# Altium footprint library Capacitors.PcbLib: 81 footprints (part 5 of 6)
Each footprint in its own frame and in the unit in brackets; x right, y up, seen from the top. Pads: shape width x height; smd on the part's side, far side on the other; paste and mask are expansions set on the pad; w line width, h text height; cw(c..) or ccw(c..) is an arc to the next point about the centre after c.
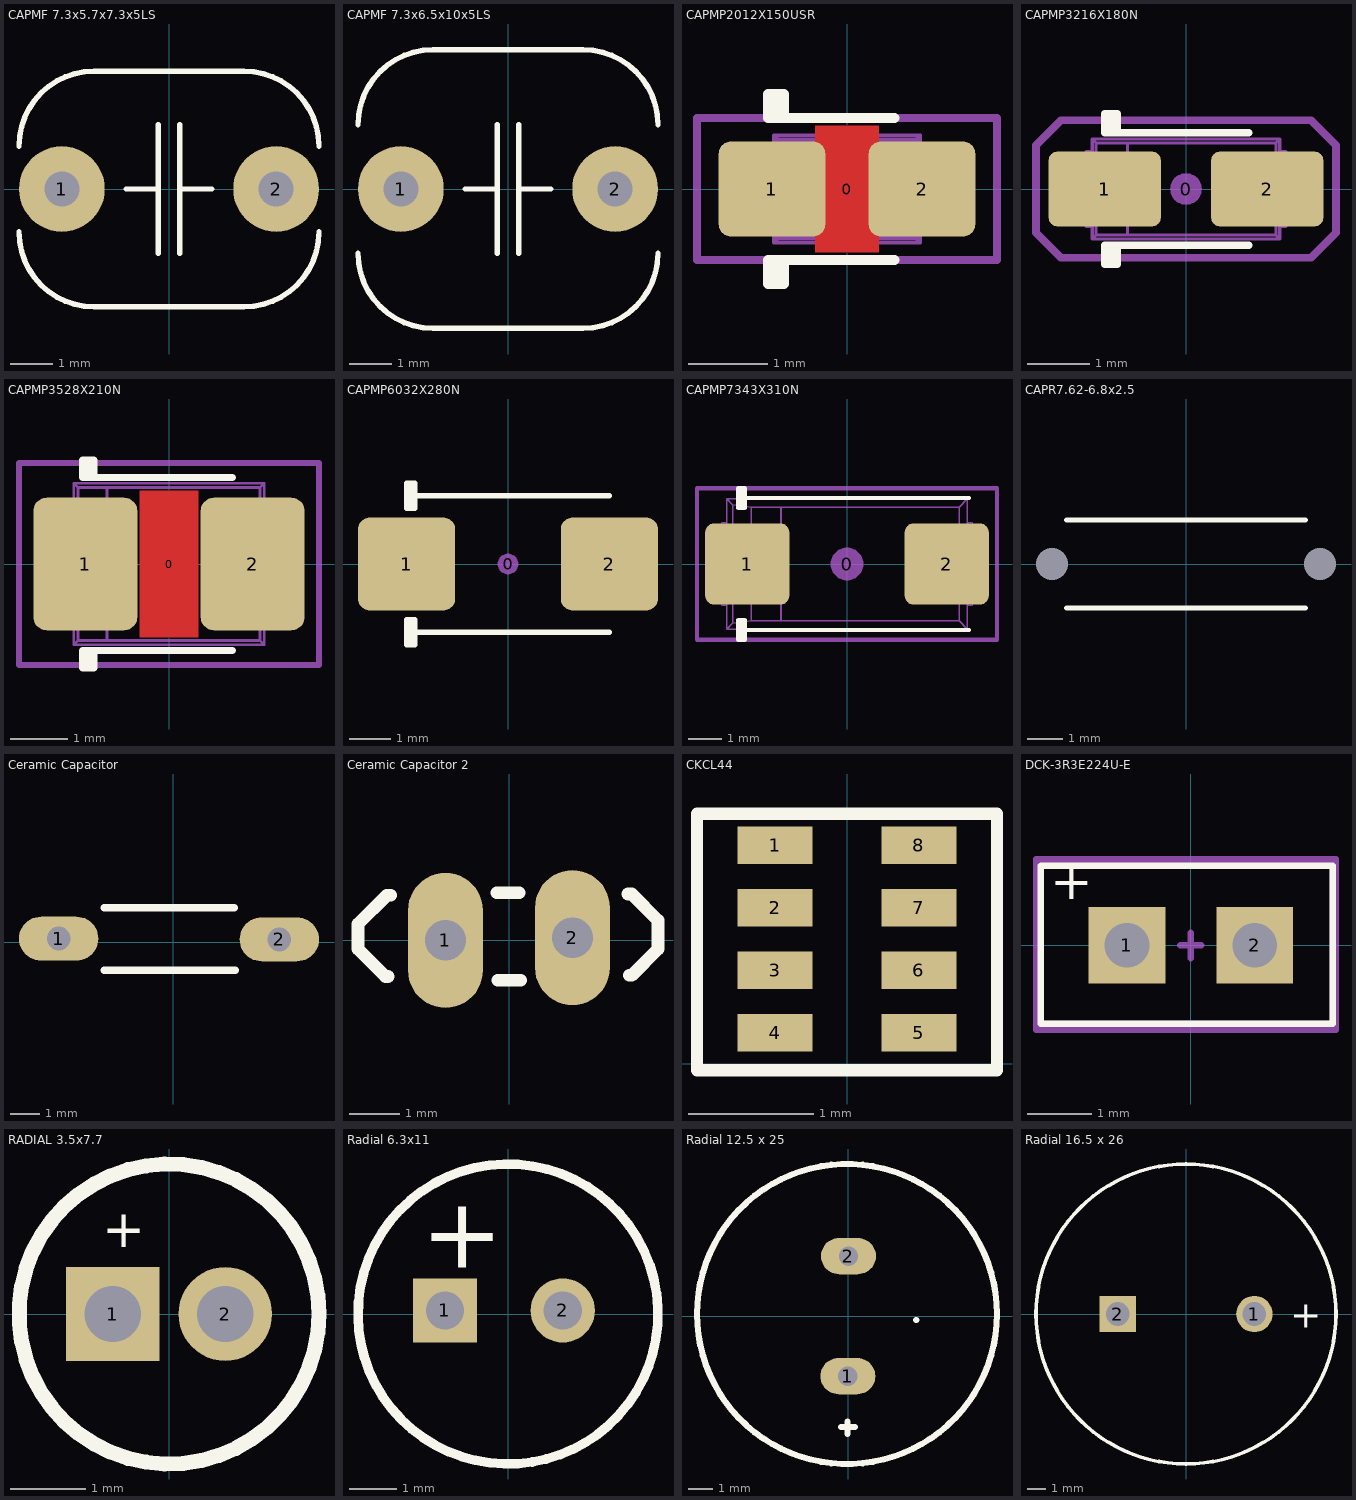
[diagram p4: the footprints below, top view; thin cyan lines are the x and y axes]

## CAPMF 7.3x5.7x7.3x5LS [mm] "Capacitor, THT, Metallized Polyester Film"
height 7
pads (2):
  round 2 hole 0.813: 1(-2.5,0) 2(2.5,0)
Top Overlay:
  lines w0.127: -3.5,-1 ccw(c-1.75,-1) -1.75,-2.75 1.75,-2.75 ccw(c1.75,-1) 3.5,-1 ; -3.5,1 cw(c-1.75,1) -1.75,2.75 1.75,2.75 cw(c1.75,1) 3.5,1 ; -1,0 -0.25,0 ; -0.25,-1.5 -0.25,1.5 ; 0.25,-1.5 0.25,1.5 ; 0.25,0 1,0
3D body "Cap, film, 7.3x5.7x7.3x5LS.STP": height 8.3, standoff -2, extent -3.65,-2.85 3.65,2.85

## CAPMF 7.3x6.5x10x5LS [mm] "Capacitor, THT, Metallized Polyester Film"
height 10
pads (2):
  round 2 hole 0.813: 1(-2.5,0) 2(2.5,0)
Top Overlay:
  lines w0.127: -3.5,-1.5 ccw(c-1.75,-1.5) -1.75,-3.25 1.75,-3.25 ccw(c1.75,-1.5) 3.5,-1.5 ; -3.5,1.5 cw(c-1.75,1.5) -1.75,3.25 1.75,3.25 cw(c1.75,1.5) 3.5,1.5 ; -1,0 -0.25,0 ; -0.25,-1.5 -0.25,1.5 ; 0.25,-1.5 0.25,1.5 ; 0.25,0 1,0
3D body "Cap, film, 7.3x6.5x10x5LS.STP": height 11, standoff -2, extent -3.65,-3.25 3.65,3.25

## CAPMP2012X150USR [mm] "Molded body capacitor, Body 2.0x1.2mm, 0805, IPC Medium Density"
height 1.5
pads (3):
  round 0.254 on Mech15: 0(0,0)
  rrect25% 1.35x1.2 smd: 1(-0.95,0) 2(0.95,0)
Top Layer:
  pour cut-out: -0.4,0.8 0.4,0.8 0.4,-0.8 -0.4,-0.8
Top Overlay:
  lines w0.127: -0.9,-1.2 -0.9,-0.9 ; -0.9,0.9 -0.9,1.2 ; -0.8,-0.9 -0.8,-1.2 -1,-1.2 -1,-0.9 0.6,-0.9 ; -0.8,0.9 -0.8,1.2 -1,1.2 -1,0.9 0.6,0.9
Mechanical 13:
  lines w0.05: -1.025,-0.25 -0.925,-0.25 ; -1.025,0.25 -0.925,0.25 ; -0.925,-0.5 -1.025,-0.5 -1.025,0.5 -0.925,0.5 ; -0.373,-0.623 -0.373,0.623 ; 0.925,-0.5 1.025,-0.5 1.025,0.5 0.925,0.5 ; 0.925,-0.25 1.025,-0.25 ; 0.925,0.25 1.025,0.25 ; -0.925,-0.675 0.925,-0.675 ; -0.925,-0.675 -0.925,0.675 ; -0.925,-0.675 -0.873,-0.623 ; -0.925,0.675 0.925,0.675 ; -0.925,0.675 -0.873,0.623 ; -0.873,-0.623 0.873,-0.623 ; -0.873,-0.623 -0.873,0.623 ; -0.873,0.623 0.873,0.623 ; 0.873,-0.623 0.925,-0.675 ; 0.873,-0.623 0.873,0.623 ; 0.873,0.623 0.925,0.675 ; 0.925,-0.675 0.925,0.675
Mechanical 15:
  lines w0.1: -1.9,-0.9 1.9,-0.9 1.9,0.9 -1.9,0.9 -1.9,-0.9
3D body "CAPMP2012X150N.STEP": height 1.5, standoff 0, extent -1.025,-0.675 1.025,0.675

## CAPMP3216X180N [mm] "Capacitor, polarized, Molded Body, EIA 535BAAC size A; 3.20mm L X 1.60mm W X 1.80mm H"
height 1.8
pads (3):
  round 0.508 on Mech15: 0(0,0)
  rrect25% 1.8x1.2 smd: 1(-1.3,0) 2(1.3,0)
Top Overlay:
  lines w0.127: -1.2,-1.2 -1.2,-0.9 ; -1.2,0.9 -1.2,1.2 ; -1.1,-0.9 -1.1,-1.2 -1.3,-1.2 -1.3,-0.9 1,-0.9 ; -1.1,0.9 -1.1,1.2 -1.3,1.2 -1.3,0.9 1,0.9
Mechanical 13:
  lines w0.05: -1.6,-0.36 -1.499,-0.36 ; -1.6,0.36 -1.499,0.36 ; -1.499,-0.6 -1.6,-0.6 -1.6,0.6 -1.499,0.6 ; -0.937,-0.737 -0.937,0.737 ; 1.499,-0.6 1.6,-0.6 1.6,0.6 1.499,0.6 ; 1.499,-0.36 1.6,-0.36 ; 1.499,0.36 1.6,0.36 ; -1.5,-0.8 -1.437,-0.737 ; -1.5,-0.8 1.5,-0.8 ; -1.5,-0.8 -1.5,0.8 ; -1.5,0.8 -1.437,0.737 ; -1.5,0.8 1.5,0.8 ; -1.437,-0.737 1.437,-0.737 ; -1.437,-0.737 -1.437,0.737 ; -1.437,0.737 1.437,0.737 ; 1.437,-0.737 1.5,-0.8 ; 1.437,-0.737 1.437,0.737 ; 1.437,0.737 1.5,0.8 ; 1.5,-0.8 1.5,0.8
Mechanical 15:
  lines w0.127: -2.4,-0.7 -2.4,0.7 -2,1.1 2,1.1 2.4,0.7 2.4,-0.7 2,-1.1 -2,-1.1 -2.4,-0.7
3D body "CAPMP3216X180N.STEP": height 1.8, standoff 0, extent -1.6,-0.8 1.6,0.8

## CAPMP3528X210N [mm] "Molded body capacitor, Body 3.5x2.8mm, 1210, IPC Nominal settings"
height 2.1
pads (3):
  round 0.254 on Mech15: 0(0,0)
  rrect25% 1.8x2.3 smd: 1(-1.45,0) 2(1.45,0)
Top Layer:
  pour cut-out: -0.508,1.27 0.508,1.27 0.508,-1.27 -0.508,-1.27
Top Overlay:
  lines w0.127: -1.4,-1.8 -1.4,-1.5 ; -1.4,1.5 -1.4,1.8 ; -1.3,-1.5 -1.3,-1.8 -1.5,-1.8 -1.5,-1.5 1.1,-1.5 ; -1.3,1.5 -1.3,1.8 -1.5,1.8 -1.5,1.5 1.1,1.5
Mechanical 13:
  lines w0.05: -1.75,-0.55 -1.65,-0.55 ; -1.75,0.55 -1.65,0.55 ; -1.65,-1.1 -1.75,-1.1 -1.75,1.1 -1.65,1.1 ; -1.077,-1.327 -1.077,1.327 ; 1.65,-1.1 1.75,-1.1 1.75,1.1 1.65,1.1 ; 1.65,-0.55 1.75,-0.55 ; 1.65,0.55 1.75,0.55 ; -1.65,-1.4 -1.577,-1.327 ; -1.65,-1.4 -1.65,1.4 ; -1.65,-1.4 1.65,-1.4 ; -1.65,1.4 -1.577,1.327 ; -1.65,1.4 1.65,1.4 ; -1.577,-1.327 -1.577,1.327 ; -1.577,-1.327 1.577,-1.327 ; -1.577,1.327 1.577,1.327 ; 1.577,-1.327 1.577,1.327 ; 1.577,-1.327 1.65,-1.4 ; 1.577,1.327 1.65,1.4 ; 1.65,-1.4 1.65,1.4
Mechanical 15:
  lines w0.1: -2.6,-1.75 -2.6,1.75 2.6,1.75 2.6,-1.75 -2.6,-1.75
3D body "CAPMP3528X210N.STEP": height 2.1, standoff 0, extent -1.75,-1.4 1.75,1.4

## CAPMP6032X280N [mm] "Capacitor, polarized, Molded Body, EIA 535BAAC size C; 6.00mm L X 3.20mm W X 2.80mm H"
height 2.8
pads (3):
  round 0.508 on Mech15: 0(0,0)
  rrect25% 2.35x2.25 smd: 1(-2.45,0) 2(2.45,0)
Top Overlay:
  lines w0.127: -2.45,-1.65 2.45,-1.65 ; -2.45,1.65 2.45,1.65 ; -2.35,-1.95 -2.35,-1.65 -2.35,-1.35 ; -2.35,1.35 -2.35,1.65 -2.35,1.95 ; -2.45,-1.95 -2.45,-1.35 -2.25,-1.35 -2.25,-1.65 -2.25,-1.95 -2.45,-1.95 ; -2.45,1.35 -2.45,1.95 -2.25,1.95 -2.25,1.65 -2.25,1.35 -2.45,1.35
3D body: height 2.8, standoff 0, extent -3,-1.6 3,1.6

## CAPMP7343X310N [mm] "Molded body capacitor, Body 7.3x4.3mm, 2917, IPC Nominal settings"
height 3.1
pads (3):
  round 1 on Mech15: 0(0,0)
  rrect20% 2.55x2.45 smd: 1(-3.025,0) 2(3.025,0)
Top Overlay:
  lines w0.127: -3.3,-2 3.7,-2 ; -3.3,2 3.7,2 ; -3.2,-2.3 -3.2,-2 -3.2,-1.7 ; -3.2,1.7 -3.2,2 -3.2,2.3 ; -3.3,-2.3 -3.1,-2.3 -3.1,-2 -3.1,-1.7 -3.3,-1.7 -3.3,-2.3 ; -3.3,1.7 -3.1,1.7 -3.1,2 -3.1,2.3 -3.3,2.3 -3.3,1.7
Mechanical 13:
  lines w0.05: -3.8,-0.5 -3.65,-0.5 ; -3.8,0.5 -3.65,0.5 ; -3.67,-0.5 -3.67,0.5 ; -3.65,-1.25 -3.8,-1.25 -3.8,1.25 -3.65,1.25 ; -2.901,-0.575 -2.901,0.575 ; 3.65,-1.25 3.8,-1.25 3.8,1.25 3.65,1.25 ; 3.65,-0.5 3.8,-0.5 ; 3.65,0.5 3.8,0.5 ; 3.67,-0.5 3.67,0.5 ; -3.65,-1.975 3.65,-1.975 ; -3.65,-1.975 -3.471,-1.796 ; -3.65,-1.975 -3.65,1.975 ; -3.65,1.975 -3.471,1.796 ; -3.65,1.975 3.65,1.975 ; -3.471,-1.796 -2.907,-1.727 ; -3.471,-1.796 -3.471,1.796 ; -3.471,1.796 -2.907,1.727 ; -2.907,-1.727 -2.001,-1.727 ; -2.907,-1.727 -2.907,-0.575 -2.001,-0.575 -2.001,-1.727 ; -2.907,1.727 -2.001,1.727 ; -2.907,1.727 -2.907,0.575 -2.001,0.575 -2.001,1.727 ; -2.001,-1.727 3.401,-1.726 ; -2.001,1.727 3.401,1.726 ; 3.401,-1.726 3.65,-1.975 ; 3.401,-1.726 3.401,1.726 ; 3.401,1.726 3.65,1.975 ; 3.65,-1.975 3.65,1.975
Mechanical 15:
  lines w0.127: -4.55,-2.3 4.55,-2.3 4.55,2.3 -4.55,2.3 -4.55,-2.3
3D body "CAPMP7343X310N.STEP": height 3.1, standoff 0, extent -3.8,-1.975 3.8,1.975

## CAPR7.62-6.8x2.5 [mil] "Capacitor, MF, Thru-Hole, Dipped Radial; Body 6.8 x 2.5 mm (WxT) Pin Spacing 7.62 mm (typ)"
height 236.22
pads (2):
  round 0 / inner round 0 / far side oval 100x85 hole 36 unplated: 1(-150,0) 2(150,0)
Top Overlay:
  lines w6: -133.86,-49.21 133.86,-49.21 ; -133.86,49.21 133.86,49.21
3D body "CAPMF_10.3x6.0x13.0mm WxTxH 7.5mmLS.STEP": height 511.81, standoff -100, extent -202.75,-118.1 202.76,118.12

## Ceramic Capacitor [mm] "Capacitor ceramico tipo lenteja"
pads (2):
  oval 2.7x1.5 hole 0.813: 1(-3.9,0.125) 2(3.6,0.1)
Top Overlay:
  lines w0.254: -2.35,-0.95 2.1,-0.95 ; -2.35,1.175 2.075,1.175
3D body "ceramico.STEP": height 9.13, standoff -1.05, extent -4.15,-1.05 3.851,1.339

## Ceramic Capacitor 2 [mm] "CAPACITOR CERAMICO"
pads (2):
  oval 1.5x2.7 hole 0.813: 1(-1.276,0) 2(1.264,0.054)
Top Overlay:
  lines w0.254: -2.425,-0.725 -2.475,-0.725 -3.025,-0.175 -3.025,0.075 -3.025,0.325 -2.45,0.9 -2.375,0.9 ; -0.25,0.95 0.2,0.95 ; -0.225,-0.8 0.225,-0.8 ; 2.375,0.925 2.45,0.925 2.975,0.4 2.975,-0.025 2.975,-0.175 2.45,-0.7 2.4,-0.7
3D body "Cap 100n.step": height 6.92, standoff -1, extent -2.925,-0.735 2.913,0.961

## CKCL44 [mm]
pads (8):
  rect 0.6x0.3 smd: 1(-0.575,1.75) 2(-0.575,1.25) 3(-0.575,0.75) 4(-0.575,0.25) 5(0.575,0.25) 6(0.575,0.75) 7(0.575,1.25) 8(0.575,1.75)
Top Overlay:
  lines w0.1: -1.2,-0.05 -1.2,2 1.2,2 1.2,-0.05 -1.2,-0.05

## DCK-3R3E224U-E [mm] "Empaque SMD0403 Azul"
pads (2):
  rect 1.2x1.2 hole 0.7 square: 1(-1,0) 2(1,0)
Top Overlay:
  lines w0.1: -2.35,-1.225 -0.025,-1.225 2.225,-1.225 2.225,1.25 0,1.25 -2.35,1.25 -2.35,-1.225
  text "+" at -2.2,0.525 h1
Mechanical 1:
  lines w0.1: -2.425,-1.325 2.275,-1.325 2.275,1.35 -2.425,1.35 -2.425,-1.325
  text ".Designator" at -1.9,-1.15 h0.8
Mechanical 15:
  lines w0.1: -0.165,0 0.165,0 ; 0,-0.2 0,0 0,0.2 ; 2.225,1.25 0,1.25 -2.35,1.25 -2.35,-1.225 -0.025,-1.225 2.225,-1.225 2.225,1.25 ; 2.225,1.25 2.225,1.25

## RADIAL 3.5x7.7 [mm] "Capacitor  Electrolitico Radial 3.5mm diametro  x 7.7mm de altura (1.5mm entre pines)"
height 6
pads (2):
  rect 1.25x1.25 hole 0.75: 1(-0.75,0)
  round 1.25 hole 0.75: 2(0.75,0)
Top Overlay:
  circle w0.2: c0,0 r2
  text "+" at -0.889,0.889 h0.5
3D body "C_ElLECTROLITICO_3.5x8_by_CharlyLex.STEP": height 8.53, standoff -1.72, extent -1.778,-1.778 1.773,1.773

## Radial 6.3x11 [mm] "Capacitor  Electrolitico Radial 6.3mm diametro  x 11mm de altura (2.5mm entre pines)"
height 12
pads (2):
  rect 1.35x1.35 hole 0.8: 1(-1.325,0.075)
  round 1.35 hole 0.8: 2(1.15,0.075)
Top Overlay:
  lines w0.2: -3.15,-0.052 ccw(c0,0) 3.149,0.076 ; -3.15,-0.05 cw(c0,0) 3.145,-0.172
  text "+" at -1.825,0.975 h1.5
3D body "SW3dPS-Cap electro 6.3x11x2.5mm.STEP": height 11.53, standoff -3.01, extent -3.273,-3.08 3.078,3.27

## Radial 12.5 x 25 [mm] "Capacitor  Electrolitico Radial 12.5mm diametro  x 25mm de altura (5mm entre pines)"
pads (2):
  oval 2.27x1.5 hole 0.8: 1(-0.012,-2.476) 2(0.013,2.477)
Top Overlay:
  circle w0.254: c-0.048,0.089 r6.188
  lines w0.254: -0.3,-4.575 0.275,-4.575 ; -0.025,-4.85 -0.025,-4.35 ; 2.808,-0.162 2.808,-0.162
3D body "Cap12_5x25.STEP": height 26.49, standoff -17.5, extent -6.235,-6.261 6.264,6.238

## Radial 16.5 x 26 [mm] "Capacitor  Electrolitico Radial 16.5mm diametro  x 26mm de altura (7.5mm entre pines)"
height 21.5
pads (2):
  round 2 hole 1.3: 1(3.75,0)
  rect 2x2 hole 1.3: 2(-3.75,0)
Top Overlay:
  circle w0.2: c0,0 r8.225
  text "+" at 5.715,-0.762 h1.5
3D body "SW3dPS-CAPACITOR-2.STEP": height 26, standoff -2.5, extent -8.264,-8.262 8.244,8.238